# Altium integrated library F31L-1A7H1-11006.IntLib: 1 symbol
Pins are listed as number, name and electrical type; pins without a type are passive.

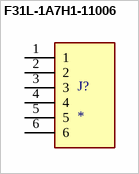
[diagram p0: symbol F31L-1A7H1-11006]

## F31L-1A7H1-11006
designator J?
Flex Connector, 0.50mm Pitch, Height 2.55mm, Right angle, Flip type, ZIF, 6 position , With MYLAR; MF: Amphenol ICC (FCI); MP: F31L-1A7H1-11006; Package: None; Price: None; Check_prices: https://www.snapeda.com/parts/F31L-1A7H1-11006/Amphenol+FCI/view-part/?ref=eda; Value: *; SnapEDA_Link: https://www.snapeda.com/parts/F31L-1A7H1-11006/Amphenol+FCI/view-part/?ref=snap; Availability: In Stock; Purchase-URL: https://pricing.snapeda.com/search?q=F31L-1A7H1-11006&ref=eda
footprint AMPHENOL_F31L-1A7H1-11006
pins: 1, 2, 3, 4, 5, 6